# Altium schematic symbol library Capacitor-TH.SchLib: 2 symbols
Pins are listed as number, name and electrical type; pins without a type are passive.

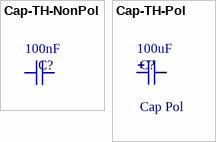
[diagram p0: symbols Cap-TH-NonPol to Cap-TH-Pol]

## Cap-TH-NonPol
designator C?, comment value 100nF  (hidden comment: Cap Non-Pol)
Capacitor
footprint CN1
footprint CN1.5
footprint CN2
footprint CN2.5 (Tu pin to pin 250mil)
footprint CN3 (Cap np W 0.3)
footprint CN4 (Cap np W 0.4)
pins: 1, 2

## Cap-TH-Pol
designator C?, comment Cap Pol  value 100uF
Polarized Capacitor (Radial)
footprint CP1/2 (Tu hoa < 22uF/16>50V)
footprint CP1/2N (Tu hoa < 22uF/16>50V)
footprint CP1/2.5 (Tu hoa 33 >100 uF,50V, 220uF/16V,25V)
footprint CP1/3.0
footprint CP1.5/2.5 (Tu hoa 33 >100 uF,50V, 220uF/16V,25V ( it su dung ))
footprint CP1.5/3.4 (Tu hoa 220->470uF,16V, 470uF/16V,25V)
footprint CP2/4 (Tu hoa 1000uF/16V/25V)
footprint CP2/5 (Tu hoa 1000uF/25V,50V)
footprint CP3/7 (Tu hoa 4700uF/25V)
footprint CP4/8.5 (Tu hoa 4700uF/50V)
footprint CP4/12 (Tu hoa 220uF/450V)
footprint CP4.5/19 (Tu hoa 10,000uF/63V)
pins: 1, 2
1 alternate drawing of the same symbol